# EAGLE library part MAX44009 (library bschulz)
MAX44009, ambient light sensor with I2C interface and configurable interrupt, 3.3v device
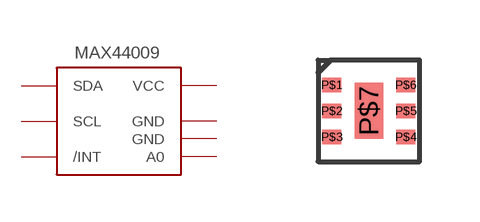
[diagram p5: symbol with the pads of UTDFN6; footprint UTDFN6]

Designator prefix -

## MAX44009  [UTDFN6]
P$1  VCC  pwr
P$2  GND  pwr
P$3  A0  in
P$4  /INT  out
P$5  SCL
P$6  SDA
P$7  GND

## Footprint UTDFN6 (pad centres in mm)
smd 0.48 x 0.36: P$1 -0.925,0.65; P$2 -0.925,0; P$3 -0.925,-0.65; P$4 0.925,-0.65; P$5 0.925,0; P$6 0.925,0.65
smd 0.71 x 1.4: P$7 0,0